# Altium footprint library 1-1734577-3-rj45-8p8c.PcbLib: 1 footprints
Each footprint in its own frame and in the unit in brackets; x right, y up, seen from the top. Pads: shape width x height; smd on the part's side, far side on the other; paste and mask are expansions set on the pad; w line width, h text height; cw(c..) or ccw(c..) is an arc to the next point about the centre after c.
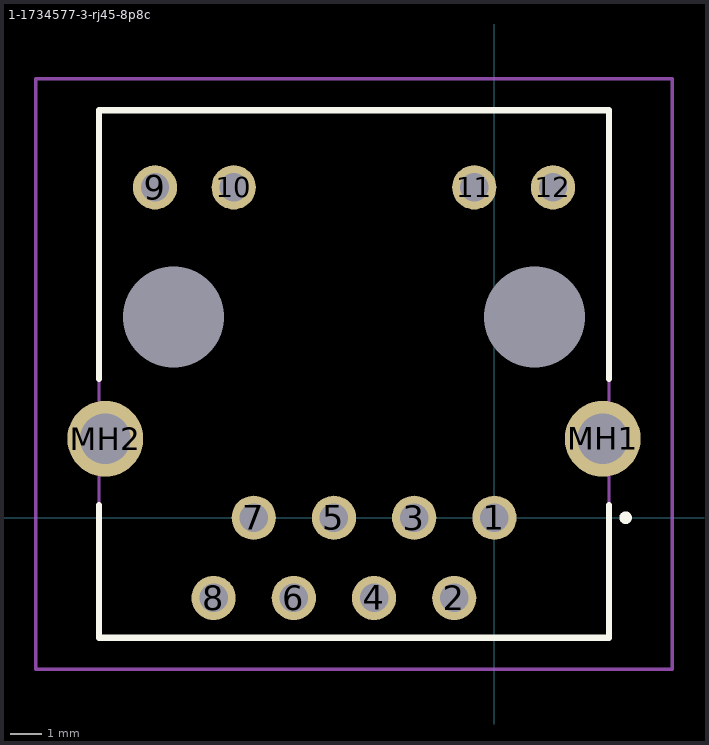
[diagram p0: the footprint, top view; thin cyan lines are the x and y axes]

## 1-1734577-3-rj45-8p8c [mm]
pads (16):
  round 1.4 hole 0.9: 1(0,0) 2(-1.27,-2.54) 3(-2.54,0) 4(-3.81,-2.54) 5(-5.08,0) 6(-6.35,-2.54) 7(-7.62,0) 8(-8.89,-2.54) 9(-10.745,10.46) 10(-8.255,10.46) 11(-0.635,10.46) 12(1.855,10.46)
  round 2.4 hole 1.6: MH1(3.43,2.5) MH2(-12.32,2.5)
  round 0 hole 3.2 unplated: MH3(1.27,6.35) MH4(-10.16,6.35)
Top Overlay:
  lines w0.2: -12.52,0.4 -12.52,-3.8 3.63,-3.8 3.63,0.4 ; -12.52,4.4 -12.52,12.9 3.63,12.9 3.63,4.4 ; 4.155,-0.1 cw(c4.155,0) 4.155,0.1 cw(c4.155,0) 4.155,-0.1
Mechanical 15:
  lines w0.1: -12.52,-3.8 3.63,-3.8 3.63,12.9 -12.52,12.9 -12.52,-3.8
Mechanical 20:
  lines w0.1: -14.52,-4.8 5.63,-4.8 5.63,13.9 -14.52,13.9 -14.52,-4.8
3D body "c-1734577-3-c-3d.stp": height 16.55, standoff -3.45, extent -12.52,-3.8 3.63,12.9